# Altium footprint library MP1584.PcbLib: 1 footprints
Each footprint in its own frame and in the unit in brackets; x right, y up, seen from the top. Pads: shape width x height; smd on the part's side, far side on the other; paste and mask are expansions set on the pad; w line width, h text height; cw(c..) or ccw(c..) is an arc to the next point about the centre after c.
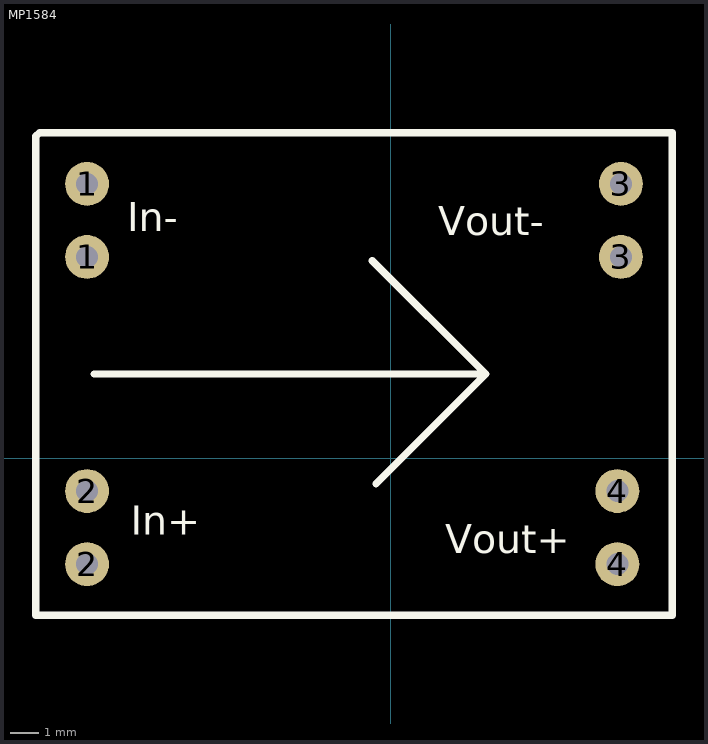
[diagram p0: the footprint, top view; thin cyan lines are the x and y axes]

## MP1584 [mil] "MP1584"
pads (8):
  round 60 hole 30: 1(-415,275) 1(-415,375) 2(-415,-145) 2(-415,-45) 3(315,275) 3(315,375) 4(310,-145) 4(310,-45)
Top Overlay:
  lines w10: -405,115 130,115 ; -25,270 130,115 ; 130,115 -20,-35 130,115 ; -485,-215 385,-215 385,445 -480,445 -485,440 -485,-215
  text "In-" at -360,310 h39.37
  text "In+" at -355,-105 h39.37
  text "Vout-" at 65,305 h39.37
  text "Vout+" at 75,-130 h39.37
3D body "D-SUN_dcdc_step_down_SIMPLE.step": height 161.42, standoff 0, extent -485.03,-215.7 385.05,445.71